# Altium integrated library SPIN_PCB&SCH_library_V01.IntLib: 34 symbols
Pins are listed as number, name and electrical type; pins without a type are passive.

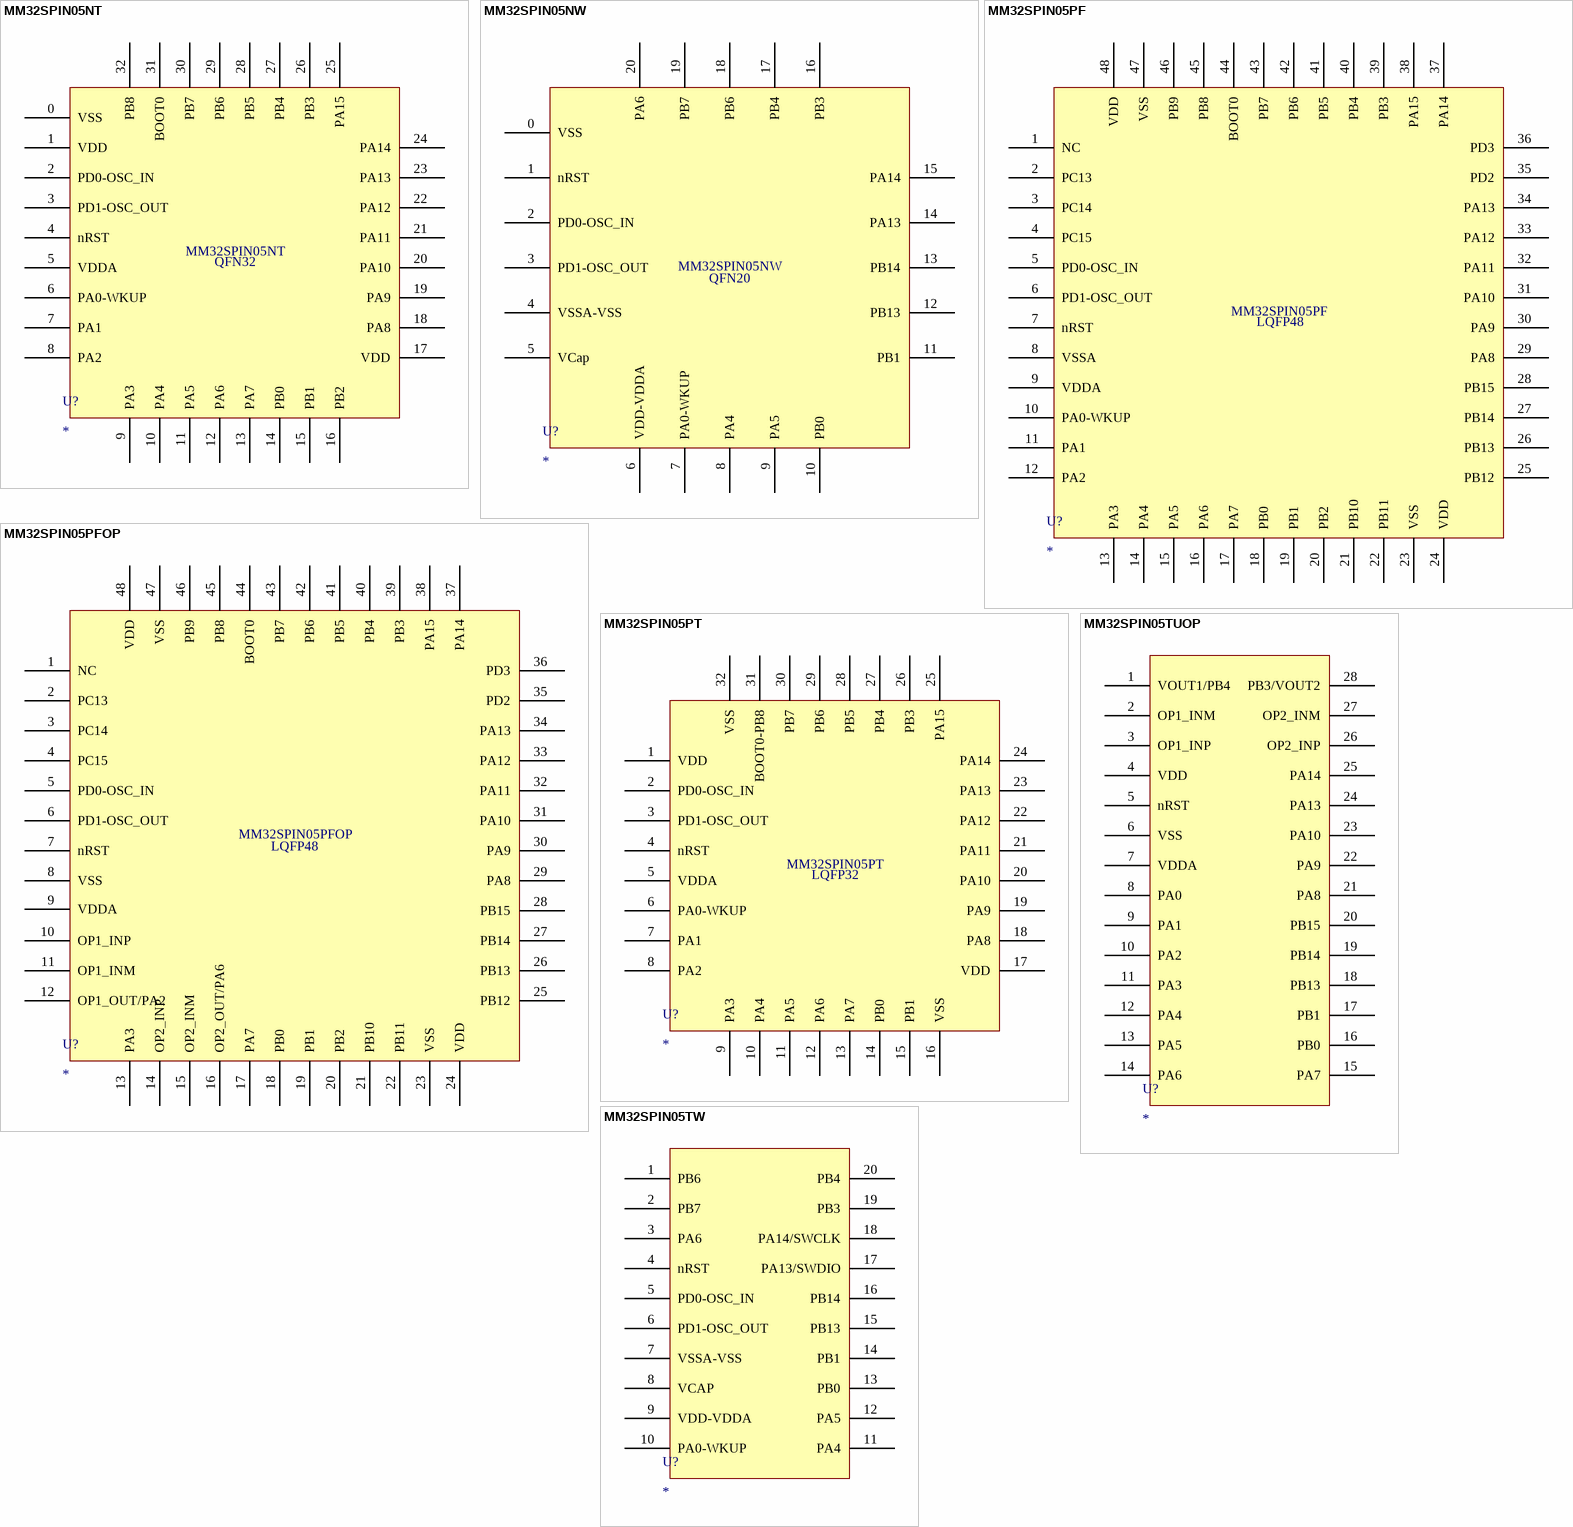
[diagram p0: symbols MM32SPIN05NT to MM32SPIN05TW]

## MM32SPIN05NT
designator U?
footprint QFN32(5*5) (QFN, 32-Leads, Body 5.00x5.00mm, Pitch 0.50mm, Thermal Pad 3.65x3.65mm, IPC Medium Density)
pins: 0 VSS, 1 VDD, 2 PD0-OSC_IN, 3 PD1-OSC_OUT, 4 nRST, 5 VDDA, 6 PA0-WKUP, 7 PA1, 8 PA2, 9 PA3, 10 PA4, 11 PA5, 12 PA6, 13 PA7, 14 PB0, 15 PB1, 16 PB2, 17 VDD, 18 PA8, 19 PA9, 20 PA10, 21 PA11, 22 PA12, 23 PA13, 24 PA14, 25 PA15, 26 PB3, 27 PB4, 28 PB5, 29 PB6, 30 PB7, 31 BOOT0, 32 PB8
text: QFN32

## MM32SPIN05NW
designator U?
footprint QFN20(3*3)
pins: 0 VSS, 1 nRST, 2 PD0-OSC_IN, 3 PD1-OSC_OUT, 4 VSSA-VSS, 5 VCap, 6 VDD-VDDA, 7 PA0-WKUP, 8 PA4, 9 PA5, 10 PB0, 11 PB1, 12 PB13, 13 PB14, 14 PA13, 15 PA14, 16 PB3, 17 PB4, 18 PB6, 19 PB7, 20 PA6
text: QFN20

## MM32SPIN05PF
designator U?
footprint LQFP48
pins: 1 NC, 2 PC13, 3 PC14, 4 PC15, 5 PD0-OSC_IN, 6 PD1-OSC_OUT, 7 nRST, 8 VSSA, 9 VDDA, 10 PA0-WKUP, 11 PA1, 12 PA2, 13 PA3, 14 PA4, 15 PA5, 16 PA6, 17 PA7, 18 PB0, 19 PB1, 20 PB2, 21 PB10, 22 PB11, 23 VSS, 24 VDD, 25 PB12, 26 PB13, 27 PB14, 28 PB15, 29 PA8, 30 PA9, 31 PA10, 32 PA11, 33 PA12, 34 PA13, 35 PD2, 36 PD3, 37 PA14, 38 PA15, 39 PB3, 40 PB4, 41 PB5, 42 PB6, 43 PB7, 44 BOOT0, 45 PB8, 46 PB9, 47 VSS, 48 VDD
text: LQFP48

## MM32SPIN05PFOP
designator U?
footprint LQFP48
pins: 1 NC, 2 PC13, 3 PC14, 4 PC15, 5 PD0-OSC_IN, 6 PD1-OSC_OUT, 7 nRST, 8 VSS, 9 VDDA, 10 OP1_INP, 11 OP1_INM, 12 OP1_OUT/PA2, 13 PA3, 14 OP2_INP, 15 OP2_INM, 16 OP2_OUT/PA6, 17 PA7, 18 PB0, 19 PB1, 20 PB2, 21 PB10, 22 PB11, 23 VSS, 24 VDD, 25 PB12, 26 PB13, 27 PB14, 28 PB15, 29 PA8, 30 PA9, 31 PA10, 32 PA11, 33 PA12, 34 PA13, 35 PD2, 36 PD3, 37 PA14, 38 PA15, 39 PB3, 40 PB4, 41 PB5, 42 PB6, 43 PB7, 44 BOOT0, 45 PB8, 46 PB9, 47 VSS, 48 VDD
text: LQFP48

## MM32SPIN05PT
designator U?
footprint LQFP32
pins: 1 VDD, 2 PD0-OSC_IN, 3 PD1-OSC_OUT, 4 nRST, 5 VDDA, 6 PA0-WKUP, 7 PA1, 8 PA2, 9 PA3, 10 PA4, 11 PA5, 12 PA6, 13 PA7, 14 PB0, 15 PB1, 16 VSS, 17 VDD, 18 PA8, 19 PA9, 20 PA10, 21 PA11, 22 PA12, 23 PA13, 24 PA14, 25 PA15, 26 PB3, 27 PB4, 28 PB5, 29 PB6, 30 PB7, 31 BOOT0-PB8, 32 VSS
text: LQFP32

## MM32SPIN05TUOP
designator U?
footprint TSSOP28 (TSOP, 28-Leads, Body 9.70x4.40mm, Pitch 0.65mm, IPC Medium Density)
pins: 1 VOUT1/PB4, 2 OP1_INM, 3 OP1_INP, 4 VDD, 5 nRST, 6 VSS, 7 VDDA, 8 PA0, 9 PA1, 10 PA2, 11 PA3, 12 PA4, 13 PA5, 14 PA6, 15 PA7, 16 PB0, 17 PB1, 18 PB13, 19 PB14, 20 PB15, 21 PA8, 22 PA9, 23 PA10, 24 PA13, 25 PA14, 26 OP2_INP, 27 OP2_INM, 28 PB3/VOUT2

## MM32SPIN05TW
designator U?
footprint TSSOP20 (TSOP, 20-Leads, Body 6.45x4.38mm, Pitch 0.65mm, IPC Medium Density)
pins: 1 PB6, 2 PB7, 3 PA6, 4 nRST, 5 PD0-OSC_IN, 6 PD1-OSC_OUT, 7 VSSA-VSS, 8 VCAP, 9 VDD-VDDA, 10 PA0-WKUP, 11 PA4, 12 PA5, 13 PB0, 14 PB1, 15 PB13, 16 PB14, 17 PA13/SWDIO, 18 PA14/SWCLK, 19 PB3, 20 PB4

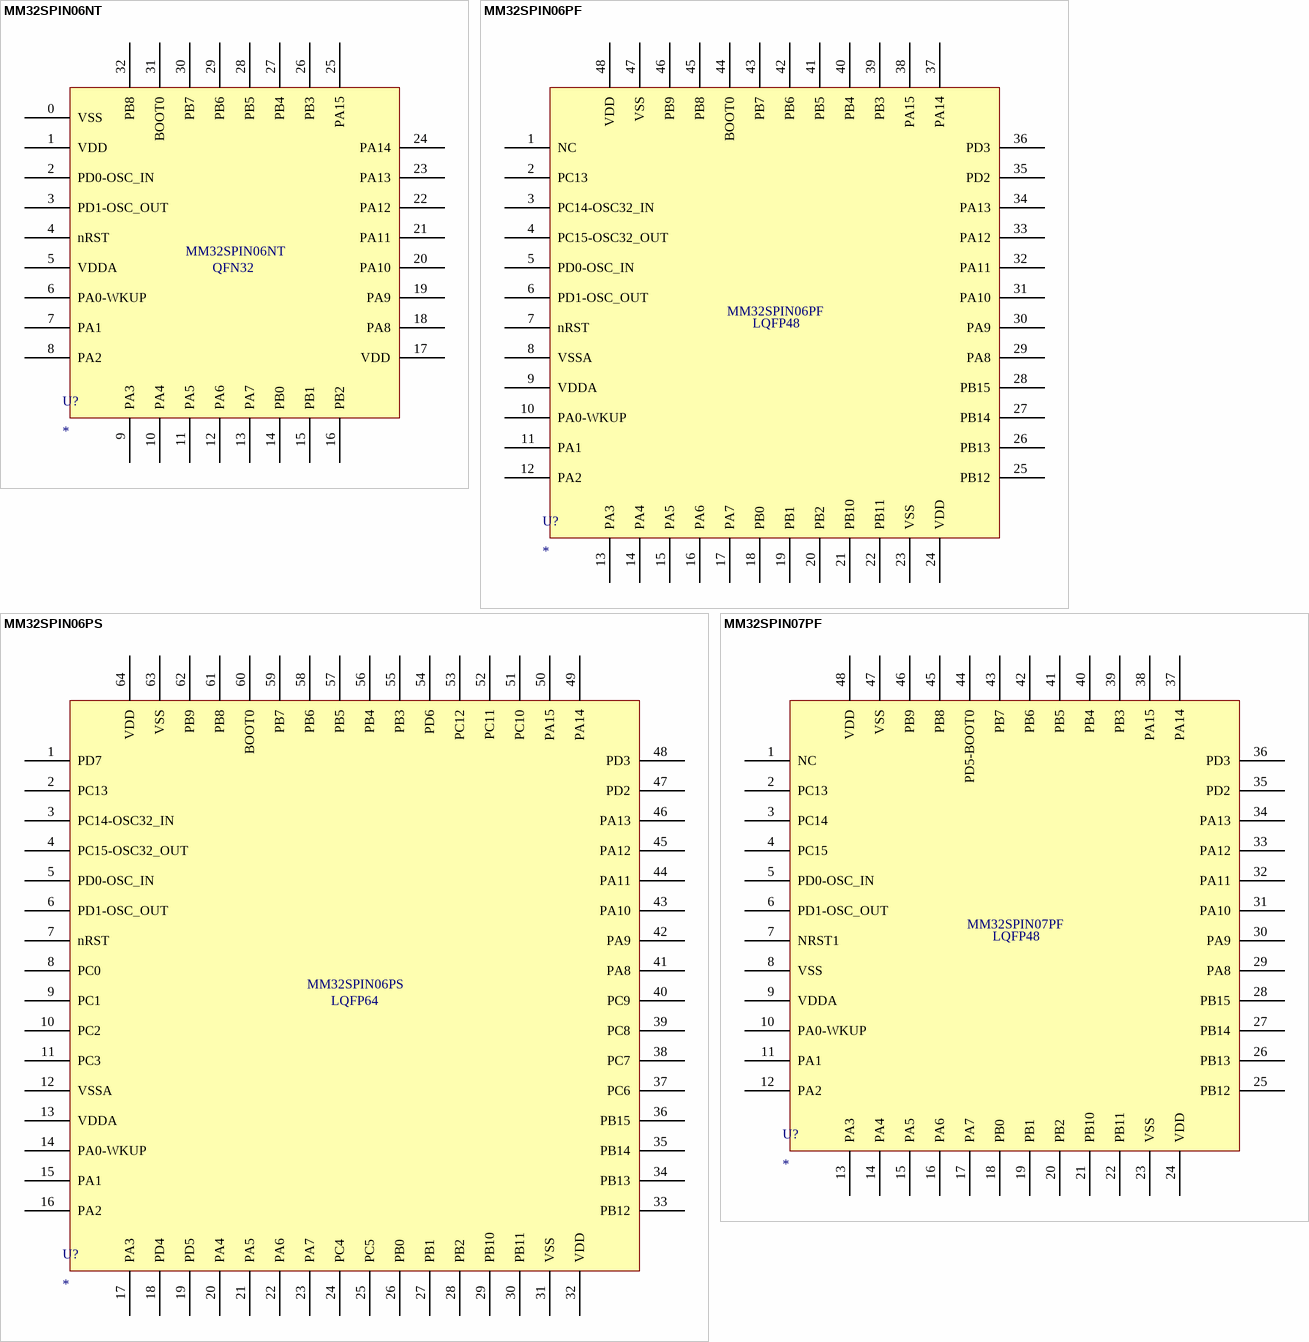
[diagram p1: symbols MM32SPIN06NT to MM32SPIN07PF]

## MM32SPIN06NT
designator U?
footprint QFN32(5*5) (QFN, 32-Leads, Body 5.00x5.00mm, Pitch 0.50mm, Thermal Pad 3.65x3.65mm, IPC Medium Density)
pins: 0 VSS, 1 VDD, 2 PD0-OSC_IN, 3 PD1-OSC_OUT, 4 nRST, 5 VDDA, 6 PA0-WKUP, 7 PA1, 8 PA2, 9 PA3, 10 PA4, 11 PA5, 12 PA6, 13 PA7, 14 PB0, 15 PB1, 16 PB2, 17 VDD, 18 PA8, 19 PA9, 20 PA10, 21 PA11, 22 PA12, 23 PA13, 24 PA14, 25 PA15, 26 PB3, 27 PB4, 28 PB5, 29 PB6, 30 PB7, 31 BOOT0, 32 PB8
text: QFN32

## MM32SPIN06PF
designator U?
footprint LQFP48
pins: 1 NC, 2 PC13, 3 PC14-OSC32_IN, 4 PC15-OSC32_OUT, 5 PD0-OSC_IN, 6 PD1-OSC_OUT, 7 nRST, 8 VSSA, 9 VDDA, 10 PA0-WKUP, 11 PA1, 12 PA2, 13 PA3, 14 PA4, 15 PA5, 16 PA6, 17 PA7, 18 PB0, 19 PB1, 20 PB2, 21 PB10, 22 PB11, 23 VSS, 24 VDD, 25 PB12, 26 PB13, 27 PB14, 28 PB15, 29 PA8, 30 PA9, 31 PA10, 32 PA11, 33 PA12, 34 PA13, 35 PD2, 36 PD3, 37 PA14, 38 PA15, 39 PB3, 40 PB4, 41 PB5, 42 PB6, 43 PB7, 44 BOOT0, 45 PB8, 46 PB9, 47 VSS, 48 VDD
text: LQFP48

## MM32SPIN06PS
designator U?
footprint LQFP64
pins: 1 PD7, 2 PC13, 3 PC14-OSC32_IN, 4 PC15-OSC32_OUT, 5 PD0-OSC_IN, 6 PD1-OSC_OUT, 7 nRST, 8 PC0, 9 PC1, 10 PC2, 11 PC3, 12 VSSA, 13 VDDA, 14 PA0-WKUP, 15 PA1, 16 PA2, 17 PA3, 18 PD4, 19 PD5, 20 PA4, 21 PA5, 22 PA6, 23 PA7, 24 PC4, 25 PC5, 26 PB0, 27 PB1, 28 PB2, 29 PB10, 30 PB11, 31 VSS, 32 VDD, 33 PB12, 34 PB13, 35 PB14, 36 PB15, 37 PC6, 38 PC7, 39 PC8, 40 PC9, 41 PA8, 42 PA9, 43 PA10, 44 PA11, 45 PA12, 46 PA13, 47 PD2, 48 PD3, 49 PA14, 50 PA15, 51 PC10, 52 PC11, 53 PC12, 54 PD6, 55 PB3, 56 PB4, 57 PB5, 58 PB6, 59 PB7, 60 BOOT0, 61 PB8, 62 PB9, 63 VSS, 64 VDD
text: LQFP64

## MM32SPIN07PF
designator U?
footprint LQFP48
pins: 1 NC, 2 PC13, 3 PC14, 4 PC15, 5 PD0-OSC_IN, 6 PD1-OSC_OUT, 7 NRST1, 8 VSS, 9 VDDA, 10 PA0-WKUP, 11 PA1, 12 PA2, 13 PA3, 14 PA4, 15 PA5, 16 PA6, 17 PA7, 18 PB0, 19 PB1, 20 PB2, 21 PB10, 22 PB11, 23 VSS, 24 VDD, 25 PB12, 26 PB13, 27 PB14, 28 PB15, 29 PA8, 30 PA9, 31 PA10, 32 PA11, 33 PA12, 34 PA13, 35 PD2, 36 PD3, 37 PA14, 38 PA15, 39 PB3, 40 PB4, 41 PB5, 42 PB6, 43 PB7, 44 PD5-BOOT0, 45 PB8, 46 PB9, 47 VSS, 48 VDD
text: LQFP48

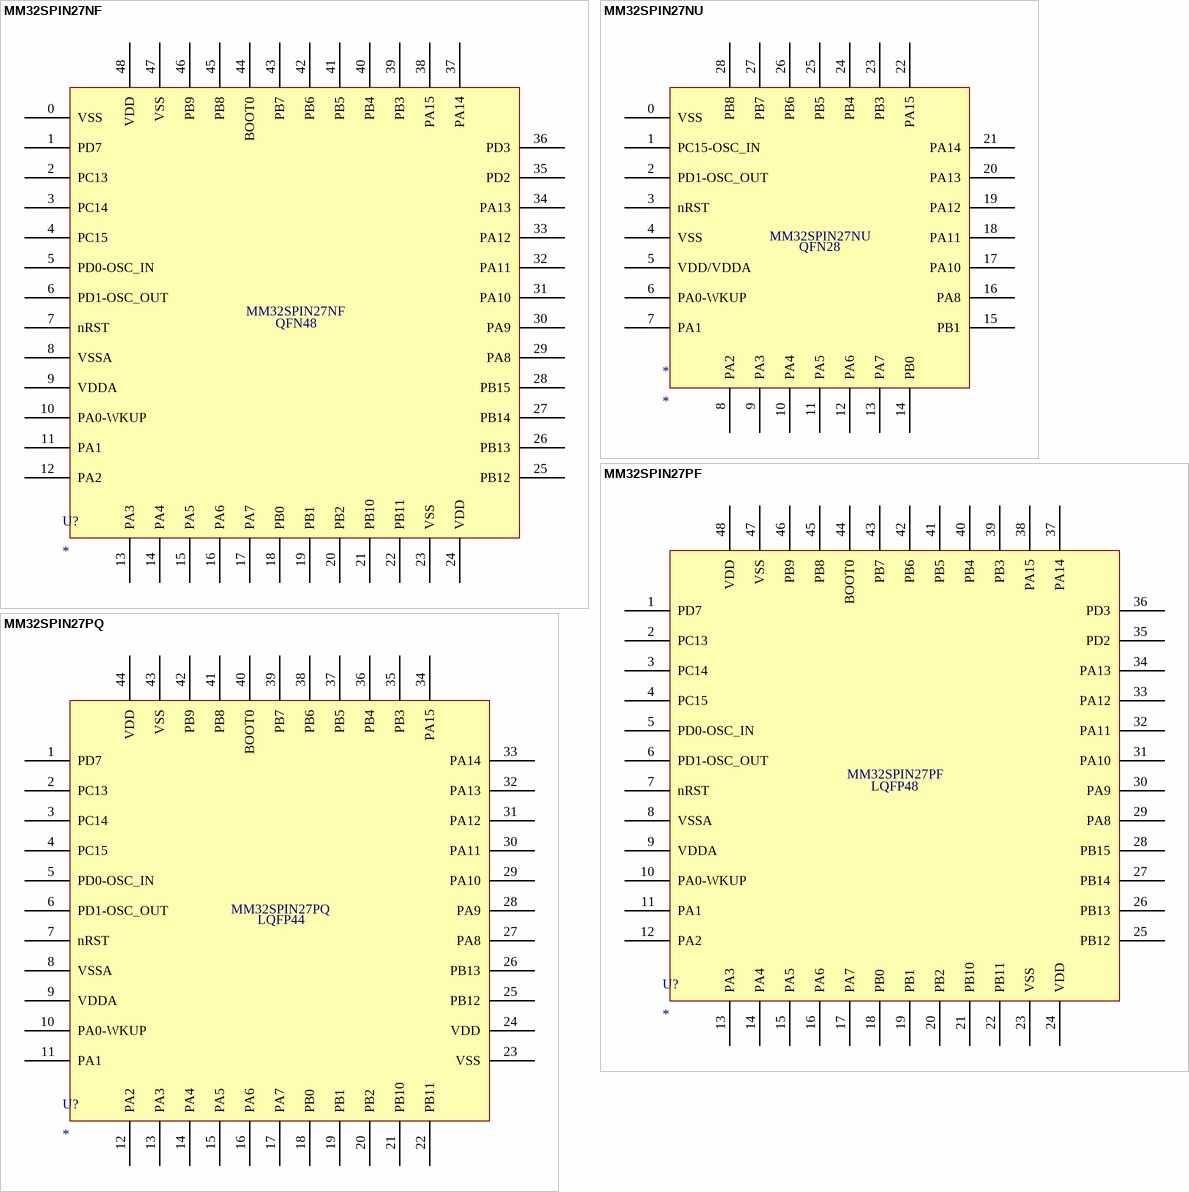
[diagram p2: symbols MM32SPIN27NF to MM32SPIN27PQ]

## MM32SPIN27NF
designator U?
footprint QFN48(7*7) (QFN, 48-Leads, Body 7.00x7.00mm, Pitch 0.50mm, Thermal Pad 5.30x5.30mm, IPC Medium Density)
pins: 0 VSS, 1 PD7, 2 PC13, 3 PC14, 4 PC15, 5 PD0-OSC_IN, 6 PD1-OSC_OUT, 7 nRST, 8 VSSA, 9 VDDA, 10 PA0-WKUP, 11 PA1, 12 PA2, 13 PA3, 14 PA4, 15 PA5, 16 PA6, 17 PA7, 18 PB0, 19 PB1, 20 PB2, 21 PB10, 22 PB11, 23 VSS, 24 VDD, 25 PB12, 26 PB13, 27 PB14, 28 PB15, 29 PA8, 30 PA9, 31 PA10, 32 PA11, 33 PA12, 34 PA13, 35 PD2, 36 PD3, 37 PA14, 38 PA15, 39 PB3, 40 PB4, 41 PB5, 42 PB6, 43 PB7, 44 BOOT0, 45 PB8, 46 PB9, 47 VSS, 48 VDD
text: QFN48

## MM32SPIN27NU
designator *
footprint QFN28(4*4)
pins: 0 VSS, 1 PC15-OSC_IN, 2 PD1-OSC_OUT, 3 nRST, 4 VSS, 5 VDD/VDDA, 6 PA0-WKUP, 7 PA1, 8 PA2, 9 PA3, 10 PA4, 11 PA5, 12 PA6, 13 PA7, 14 PB0, 15 PB1, 16 PA8, 17 PA10, 18 PA11, 19 PA12, 20 PA13, 21 PA14, 22 PA15, 23 PB3, 24 PB4, 25 PB5, 26 PB6, 27 PB7, 28 PB8
text: QFN28

## MM32SPIN27PF
designator U?
footprint LQFP48
pins: 1 PD7, 2 PC13, 3 PC14, 4 PC15, 5 PD0-OSC_IN, 6 PD1-OSC_OUT, 7 nRST, 8 VSSA, 9 VDDA, 10 PA0-WKUP, 11 PA1, 12 PA2, 13 PA3, 14 PA4, 15 PA5, 16 PA6, 17 PA7, 18 PB0, 19 PB1, 20 PB2, 21 PB10, 22 PB11, 23 VSS, 24 VDD, 25 PB12, 26 PB13, 27 PB14, 28 PB15, 29 PA8, 30 PA9, 31 PA10, 32 PA11, 33 PA12, 34 PA13, 35 PD2, 36 PD3, 37 PA14, 38 PA15, 39 PB3, 40 PB4, 41 PB5, 42 PB6, 43 PB7, 44 BOOT0, 45 PB8, 46 PB9, 47 VSS, 48 VDD
text: LQFP48

## MM32SPIN27PQ
designator U?
footprint LQFP44 (TQFP, 44-Leads, Body 10.00x10.00mm, Pitch 0.80mm, IPC Medium Density)
pins: 1 PD7, 2 PC13, 3 PC14, 4 PC15, 5 PD0-OSC_IN, 6 PD1-OSC_OUT, 7 nRST, 8 VSSA, 9 VDDA, 10 PA0-WKUP, 11 PA1, 12 PA2, 13 PA3, 14 PA4, 15 PA5, 16 PA6, 17 PA7, 18 PB0, 19 PB1, 20 PB2, 21 PB10, 22 PB11, 23 VSS, 24 VDD, 25 PB12, 26 PB13, 27 PA8, 28 PA9, 29 PA10, 30 PA11, 31 PA12, 32 PA13, 33 PA14, 34 PA15, 35 PB3, 36 PB4, 37 PB5, 38 PB6, 39 PB7, 40 BOOT0, 41 PB8, 42 PB9, 43 VSS, 44 VDD
text: LQFP44

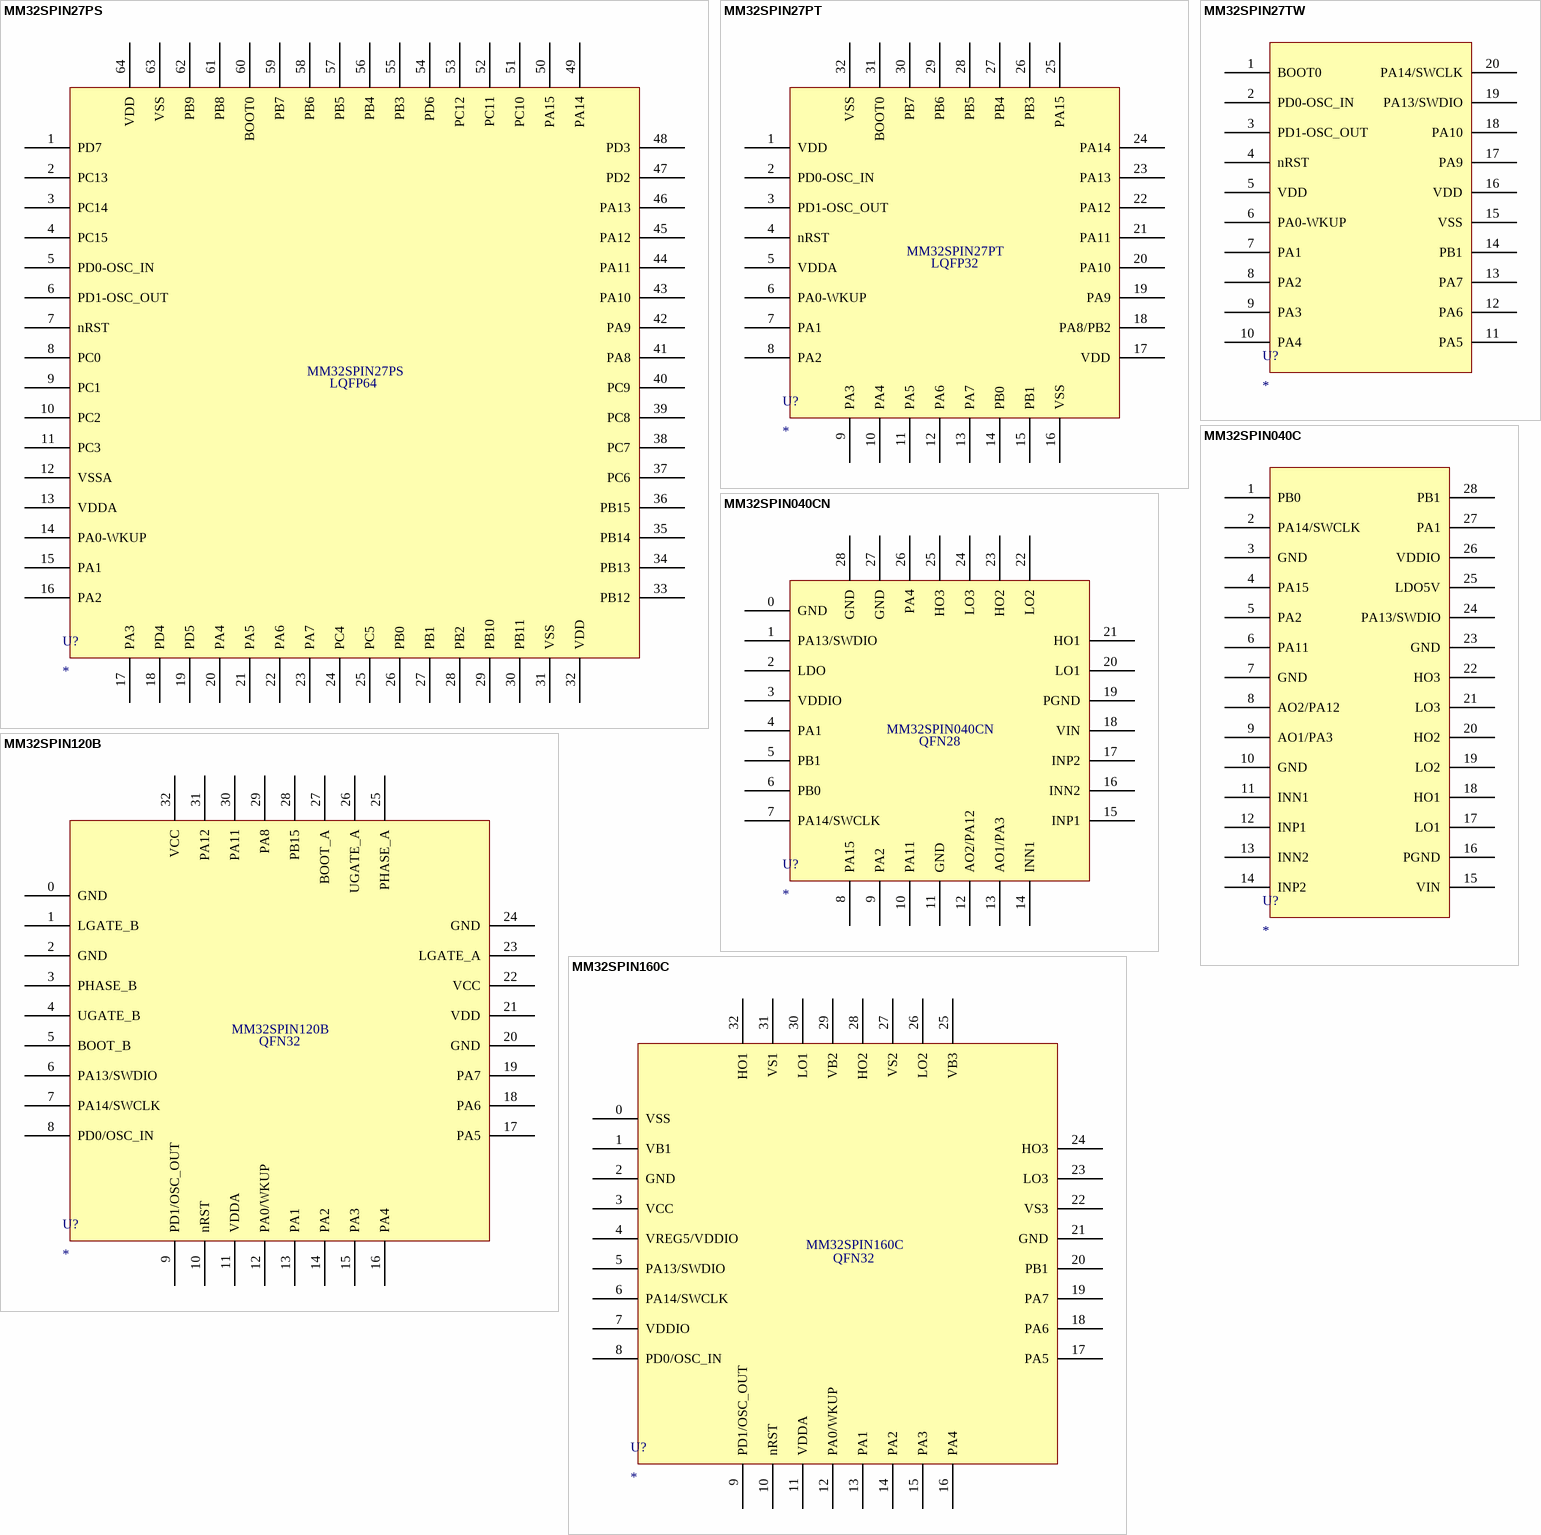
[diagram p3: symbols MM32SPIN27PS to MM32SPIN160C]

## MM32SPIN27PS
designator U?
footprint LQFP64
pins: 1 PD7, 2 PC13, 3 PC14, 4 PC15, 5 PD0-OSC_IN, 6 PD1-OSC_OUT, 7 nRST, 8 PC0, 9 PC1, 10 PC2, 11 PC3, 12 VSSA, 13 VDDA, 14 PA0-WKUP, 15 PA1, 16 PA2, 17 PA3, 18 PD4, 19 PD5, 20 PA4, 21 PA5, 22 PA6, 23 PA7, 24 PC4, 25 PC5, 26 PB0, 27 PB1, 28 PB2, 29 PB10, 30 PB11, 31 VSS, 32 VDD, 33 PB12, 34 PB13, 35 PB14, 36 PB15, 37 PC6, 38 PC7, 39 PC8, 40 PC9, 41 PA8, 42 PA9, 43 PA10, 44 PA11, 45 PA12, 46 PA13, 47 PD2, 48 PD3, 49 PA14, 50 PA15, 51 PC10, 52 PC11, 53 PC12, 54 PD6, 55 PB3, 56 PB4, 57 PB5, 58 PB6, 59 PB7, 60 BOOT0, 61 PB8, 62 PB9, 63 VSS, 64 VDD
text: LQFP64

## MM32SPIN27PT
designator U?
footprint LQFP32
pins: 1 VDD, 2 PD0-OSC_IN, 3 PD1-OSC_OUT, 4 nRST, 5 VDDA, 6 PA0-WKUP, 7 PA1, 8 PA2, 9 PA3, 10 PA4, 11 PA5, 12 PA6, 13 PA7, 14 PB0, 15 PB1, 16 VSS, 17 VDD, 18 PA8/PB2, 19 PA9, 20 PA10, 21 PA11, 22 PA12, 23 PA13, 24 PA14, 25 PA15, 26 PB3, 27 PB4, 28 PB5, 29 PB6, 30 PB7, 31 BOOT0, 32 VSS
text: LQFP32

## MM32SPIN27TW
designator U?
footprint TSSOP20 (TSOP, 20-Leads, Body 6.45x4.38mm, Pitch 0.65mm, IPC Medium Density)
pins: 1 BOOT0, 2 PD0-OSC_IN, 3 PD1-OSC_OUT, 4 nRST, 5 VDD, 6 PA0-WKUP, 7 PA1, 8 PA2, 9 PA3, 10 PA4, 11 PA5, 12 PA6, 13 PA7, 14 PB1, 15 VSS, 16 VDD, 17 PA9, 18 PA10, 19 PA13/SWDIO, 20 PA14/SWCLK

## MM32SPIN040C
designator U?
footprint TSSOP28 (TSOP, 28-Leads, Body 9.70x4.40mm, Pitch 0.65mm, IPC Medium Density)
pins: 1 PB0, 2 PA14/SWCLK, 3 GND, 4 PA15, 5 PA2, 6 PA11, 7 GND, 8 AO2/PA12, 9 AO1/PA3, 10 GND, 11 INN1, 12 INP1, 13 INN2, 14 INP2, 15 VIN, 16 PGND, 17 LO1, 18 HO1, 19 LO2, 20 HO2, 21 LO3, 22 HO3, 23 GND, 24 PA13/SWDIO, 25 LDO5V, 26 VDDIO, 27 PA1, 28 PB1

## MM32SPIN040CN
designator U?
footprint QFN28(4*4)
pins: 0 GND, 1 PA13/SWDIO, 2 LDO, 3 VDDIO, 4 PA1, 5 PB1, 6 PB0, 7 PA14/SWCLK, 8 PA15, 9 PA2, 10 PA11, 11 GND, 12 AO2/PA12, 13 AO1/PA3, 14 INN1, 15 INP1, 16 INN2, 17 INP2, 18 VIN, 19 PGND, 20 LO1, 21 HO1, 22 LO2, 23 HO2, 24 LO3, 25 HO3, 26 PA4, 27 GND, 28 GND
text: QFN28

## MM32SPIN120B
designator U?
footprint QFN32(5*5) (QFN, 32-Leads, Body 5.00x5.00mm, Pitch 0.50mm, Thermal Pad 3.65x3.65mm, IPC Medium Density)
pins: 0 GND, 1 LGATE_B, 2 GND, 3 PHASE_B, 4 UGATE_B, 5 BOOT_B, 6 PA13/SWDIO, 7 PA14/SWCLK, 8 PD0/OSC_IN, 9 PD1/OSC_OUT, 10 nRST, 11 VDDA, 12 PA0/WKUP, 13 PA1, 14 PA2, 15 PA3, 16 PA4, 17 PA5, 18 PA6, 19 PA7, 20 GND, 21 VDD, 22 VCC, 23 LGATE_A, 24 GND, 25 PHASE_A, 26 UGATE_A, 27 BOOT_A, 28 PB15, 29 PA8, 30 PA11, 31 PA12, 32 VCC
text: QFN32

## MM32SPIN160C
designator U?
footprint QFN32(5*5) (QFN, 32-Leads, Body 5.00x5.00mm, Pitch 0.50mm, Thermal Pad 3.65x3.65mm, IPC Medium Density)
pins: 0 VSS, 1 VB1, 2 GND, 3 VCC, 4 VREG5/VDDIO, 5 PA13/SWDIO, 6 PA14/SWCLK, 7 VDDIO, 8 PD0/OSC_IN, 9 PD1/OSC_OUT, 10 nRST, 11 VDDA, 12 PA0/WKUP, 13 PA1, 14 PA2, 15 PA3, 16 PA4, 17 PA5, 18 PA6, 19 PA7, 20 PB1, 21 GND, 22 VS3, 23 LO3, 24 HO3, 25 VB3, 26 LO2, 27 VS2, 28 HO2, 29 VB2, 30 LO1, 31 VS1, 32 HO1
text: QFN32

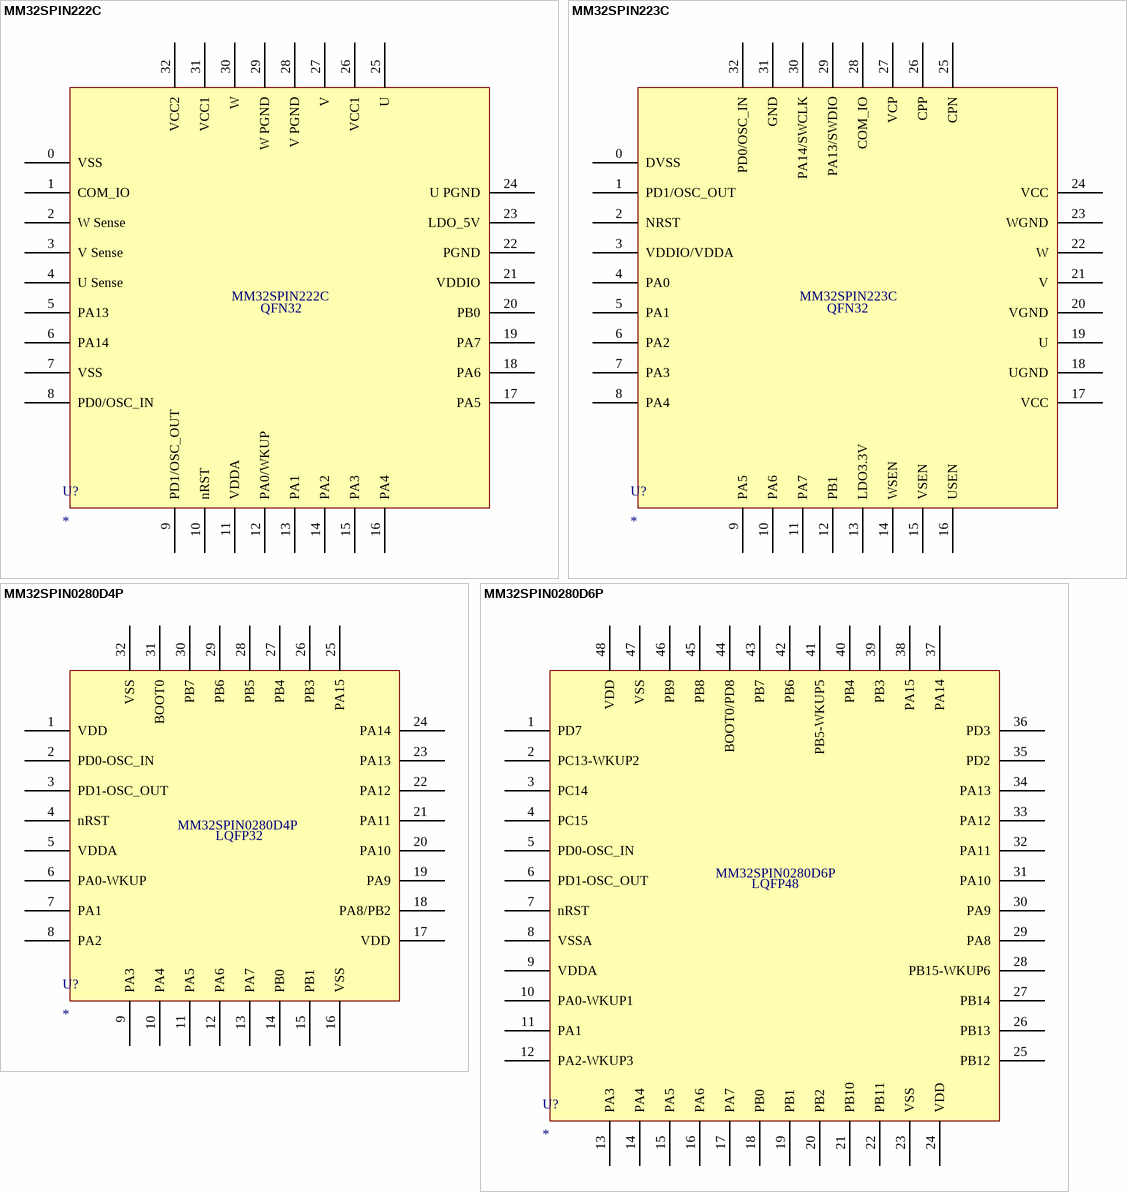
[diagram p4: symbols MM32SPIN222C to MM32SPIN0280D6P]

## MM32SPIN222C
designator U?
footprint QFN32(5*5) (QFN, 32-Leads, Body 5.00x5.00mm, Pitch 0.50mm, Thermal Pad 3.65x3.65mm, IPC Medium Density)
pins: 0 VSS, 1 COM_IO, 2 W Sense, 3 V Sense, 4 U Sense, 5 PA13, 6 PA14, 7 VSS, 8 PD0/OSC_IN, 9 PD1/OSC_OUT, 10 nRST, 11 VDDA, 12 PA0/WKUP, 13 PA1, 14 PA2, 15 PA3, 16 PA4, 17 PA5, 18 PA6, 19 PA7, 20 PB0, 21 VDDIO, 22 PGND, 23 LDO_5V, 24 U PGND, 25 U, 26 VCC1, 27 V, 28 V PGND, 29 W PGND, 30 W, 31 VCC1, 32 VCC2
text: QFN32

## MM32SPIN223C
designator U?
footprint QFN32(5*5) (QFN, 32-Leads, Body 5.00x5.00mm, Pitch 0.50mm, Thermal Pad 3.65x3.65mm, IPC Medium Density)
pins: 0 DVSS, 1 PD1/OSC_OUT, 2 NRST, 3 VDDIO/VDDA, 4 PA0, 5 PA1, 6 PA2, 7 PA3, 8 PA4, 9 PA5, 10 PA6, 11 PA7, 12 PB1, 13 LDO3.3V, 14 WSEN, 15 VSEN, 16 USEN, 17 VCC, 18 UGND, 19 U, 20 VGND, 21 V, 22 W, 23 WGND, 24 VCC, 25 CPN, 26 CPP, 27 VCP, 28 COM_IO, 29 PA13/SWDIO, 30 PA14/SWCLK, 31 GND, 32 PD0/OSC_IN
text: QFN32

## MM32SPIN0280D4P
designator U?
footprint LQFP32
pins: 1 VDD, 2 PD0-OSC_IN, 3 PD1-OSC_OUT, 4 nRST, 5 VDDA, 6 PA0-WKUP, 7 PA1, 8 PA2, 9 PA3, 10 PA4, 11 PA5, 12 PA6, 13 PA7, 14 PB0, 15 PB1, 16 VSS, 17 VDD, 18 PA8/PB2, 19 PA9, 20 PA10, 21 PA11, 22 PA12, 23 PA13, 24 PA14, 25 PA15, 26 PB3, 27 PB4, 28 PB5, 29 PB6, 30 PB7, 31 BOOT0, 32 VSS
text: LQFP32

## MM32SPIN0280D6P
designator U?
footprint LQFP48
pins: 1 PD7, 2 PC13-WKUP2, 3 PC14, 4 PC15, 5 PD0-OSC_IN, 6 PD1-OSC_OUT, 7 nRST, 8 VSSA, 9 VDDA, 10 PA0-WKUP1, 11 PA1, 12 PA2-WKUP3, 13 PA3, 14 PA4, 15 PA5, 16 PA6, 17 PA7, 18 PB0, 19 PB1, 20 PB2, 21 PB10, 22 PB11, 23 VSS, 24 VDD, 25 PB12, 26 PB13, 27 PB14, 28 PB15-WKUP6, 29 PA8, 30 PA9, 31 PA10, 32 PA11, 33 PA12, 34 PA13, 35 PD2, 36 PD3, 37 PA14, 38 PA15, 39 PB3, 40 PB4, 41 PB5-WKUP5, 42 PB6, 43 PB7, 44 BOOT0/PD8, 45 PB8, 46 PB9, 47 VSS, 48 VDD
text: LQFP48

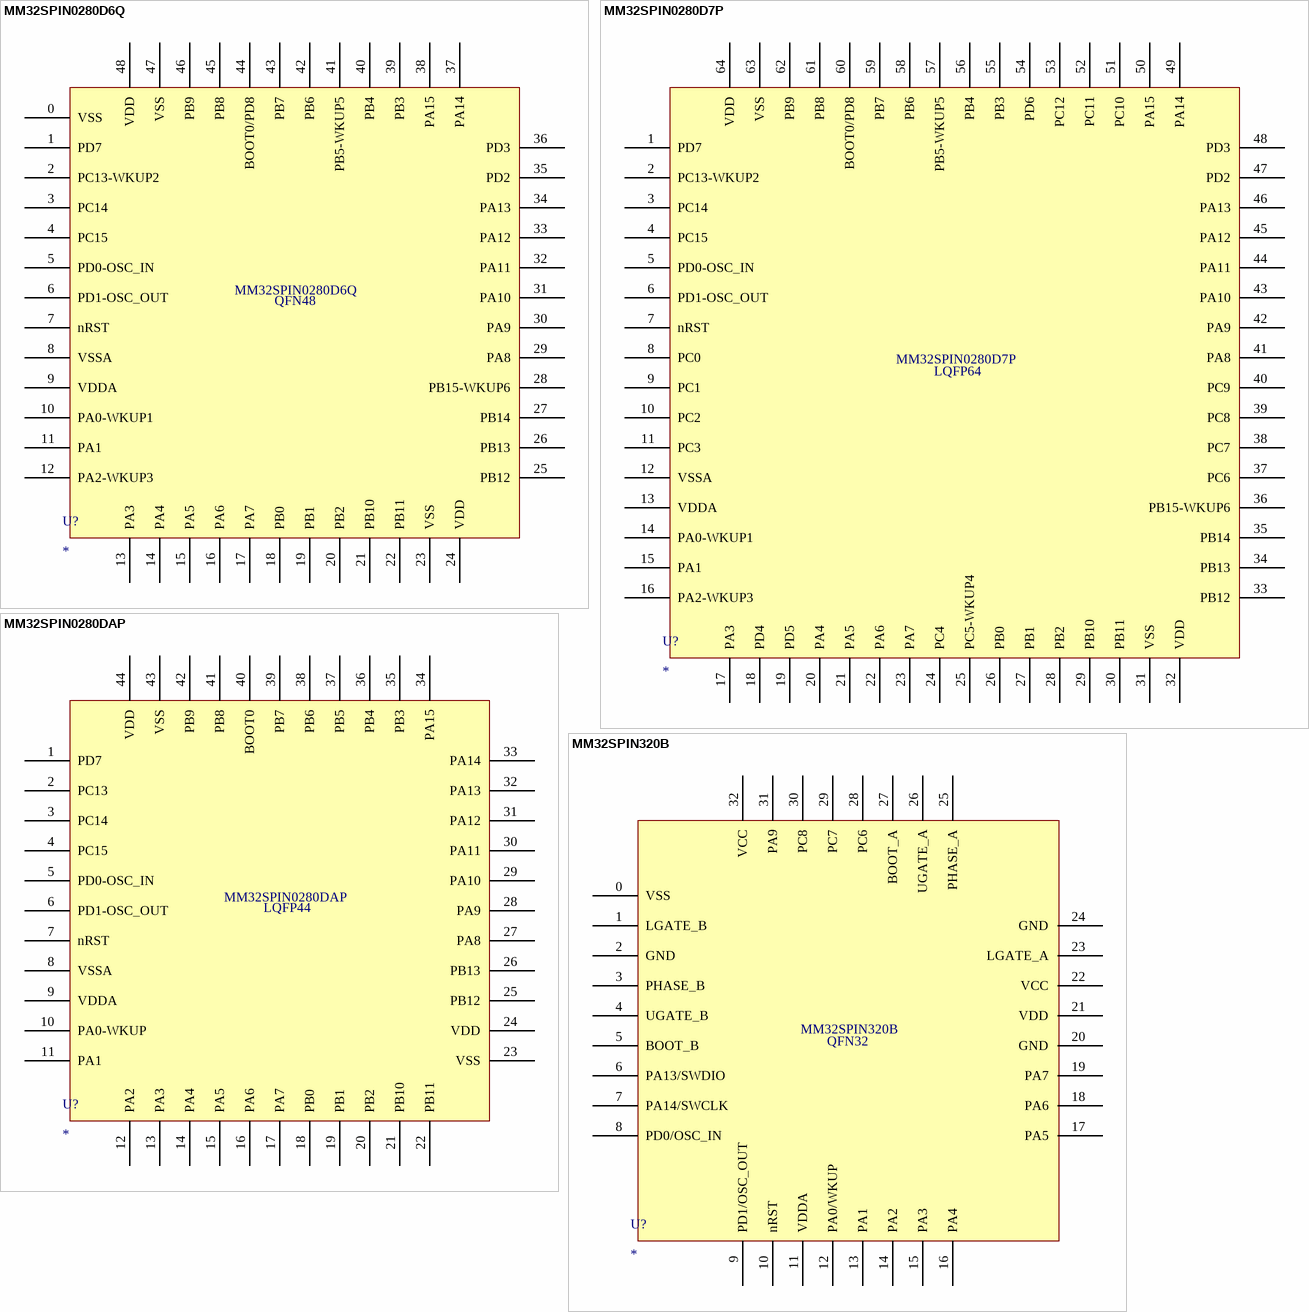
[diagram p5: symbols MM32SPIN0280D6Q to MM32SPIN320B]

## MM32SPIN0280D6Q
designator U?
footprint QFN48(7*7) (QFN, 48-Leads, Body 7.00x7.00mm, Pitch 0.50mm, Thermal Pad 5.30x5.30mm, IPC Medium Density)
pins: 0 VSS, 1 PD7, 2 PC13-WKUP2, 3 PC14, 4 PC15, 5 PD0-OSC_IN, 6 PD1-OSC_OUT, 7 nRST, 8 VSSA, 9 VDDA, 10 PA0-WKUP1, 11 PA1, 12 PA2-WKUP3, 13 PA3, 14 PA4, 15 PA5, 16 PA6, 17 PA7, 18 PB0, 19 PB1, 20 PB2, 21 PB10, 22 PB11, 23 VSS, 24 VDD, 25 PB12, 26 PB13, 27 PB14, 28 PB15-WKUP6, 29 PA8, 30 PA9, 31 PA10, 32 PA11, 33 PA12, 34 PA13, 35 PD2, 36 PD3, 37 PA14, 38 PA15, 39 PB3, 40 PB4, 41 PB5-WKUP5, 42 PB6, 43 PB7, 44 BOOT0/PD8, 45 PB8, 46 PB9, 47 VSS, 48 VDD
text: QFN48

## MM32SPIN0280D7P
designator U?
footprint LQFP64
pins: 1 PD7, 2 PC13-WKUP2, 3 PC14, 4 PC15, 5 PD0-OSC_IN, 6 PD1-OSC_OUT, 7 nRST, 8 PC0, 9 PC1, 10 PC2, 11 PC3, 12 VSSA, 13 VDDA, 14 PA0-WKUP1, 15 PA1, 16 PA2-WKUP3, 17 PA3, 18 PD4, 19 PD5, 20 PA4, 21 PA5, 22 PA6, 23 PA7, 24 PC4, 25 PC5-WKUP4, 26 PB0, 27 PB1, 28 PB2, 29 PB10, 30 PB11, 31 VSS, 32 VDD, 33 PB12, 34 PB13, 35 PB14, 36 PB15-WKUP6, 37 PC6, 38 PC7, 39 PC8, 40 PC9, 41 PA8, 42 PA9, 43 PA10, 44 PA11, 45 PA12, 46 PA13, 47 PD2, 48 PD3, 49 PA14, 50 PA15, 51 PC10, 52 PC11, 53 PC12, 54 PD6, 55 PB3, 56 PB4, 57 PB5-WKUP5, 58 PB6, 59 PB7, 60 BOOT0/PD8, 61 PB8, 62 PB9, 63 VSS, 64 VDD
text: LQFP64

## MM32SPIN0280DAP
designator U?
footprint LQFP44 (TQFP, 44-Leads, Body 10.00x10.00mm, Pitch 0.80mm, IPC Medium Density)
pins: 1 PD7, 2 PC13, 3 PC14, 4 PC15, 5 PD0-OSC_IN, 6 PD1-OSC_OUT, 7 nRST, 8 VSSA, 9 VDDA, 10 PA0-WKUP, 11 PA1, 12 PA2, 13 PA3, 14 PA4, 15 PA5, 16 PA6, 17 PA7, 18 PB0, 19 PB1, 20 PB2, 21 PB10, 22 PB11, 23 VSS, 24 VDD, 25 PB12, 26 PB13, 27 PA8, 28 PA9, 29 PA10, 30 PA11, 31 PA12, 32 PA13, 33 PA14, 34 PA15, 35 PB3, 36 PB4, 37 PB5, 38 PB6, 39 PB7, 40 BOOT0, 41 PB8, 42 PB9, 43 VSS, 44 VDD
text: LQFP44

## MM32SPIN320B
designator U?
footprint QFN32(5*5) (QFN, 32-Leads, Body 5.00x5.00mm, Pitch 0.50mm, Thermal Pad 3.65x3.65mm, IPC Medium Density)
pins: 0 VSS, 1 LGATE_B, 2 GND, 3 PHASE_B, 4 UGATE_B, 5 BOOT_B, 6 PA13/SWDIO, 7 PA14/SWCLK, 8 PD0/OSC_IN, 9 PD1/OSC_OUT, 10 nRST, 11 VDDA, 12 PA0/WKUP, 13 PA1, 14 PA2, 15 PA3, 16 PA4, 17 PA5, 18 PA6, 19 PA7, 20 GND, 21 VDD, 22 VCC, 23 LGATE_A, 24 GND, 25 PHASE_A, 26 UGATE_A, 27 BOOT_A, 28 PC6, 29 PC7, 30 PC8, 31 PA9, 32 VCC
text: QFN32

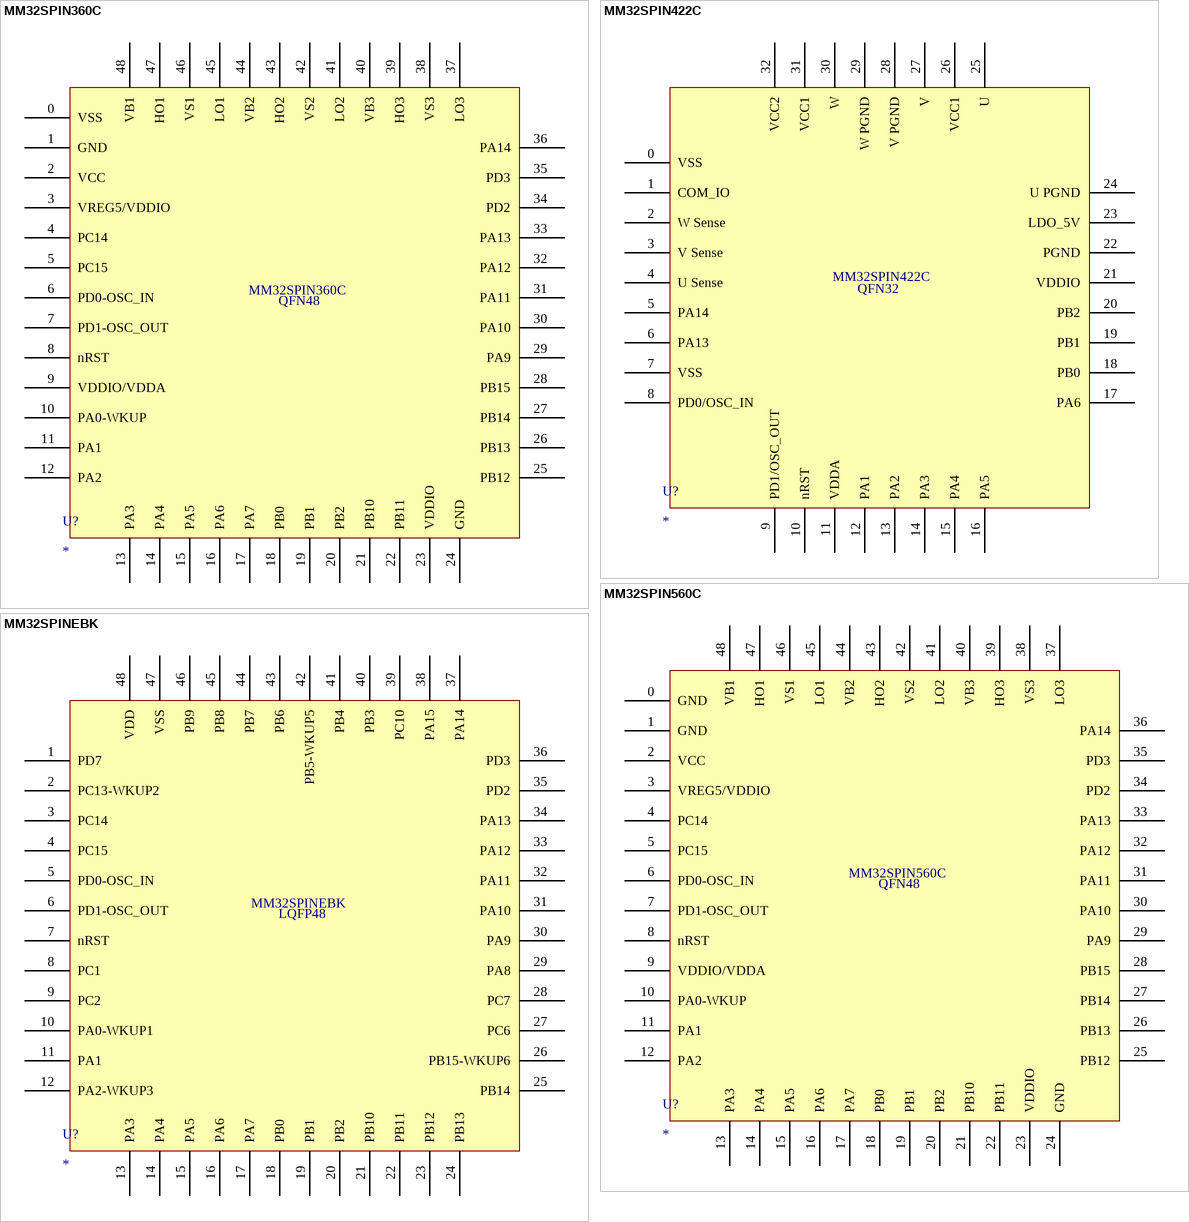
[diagram p6: symbols MM32SPIN360C to MM32SPINEBK]

## MM32SPIN360C
designator U?
footprint QFN48(6*6) (QFN, 48-Leads, Body 6.00x6.00mm, Pitch 0.40mm, Thermal Pad 2.70x4.15mm, IPC Medium Density)
pins: 0 VSS, 1 GND, 2 VCC, 3 VREG5/VDDIO, 4 PC14, 5 PC15, 6 PD0-OSC_IN, 7 PD1-OSC_OUT, 8 nRST, 9 VDDIO/VDDA, 10 PA0-WKUP, 11 PA1, 12 PA2, 13 PA3, 14 PA4, 15 PA5, 16 PA6, 17 PA7, 18 PB0, 19 PB1, 20 PB2, 21 PB10, 22 PB11, 23 VDDIO, 24 GND, 25 PB12, 26 PB13, 27 PB14, 28 PB15, 29 PA9, 30 PA10, 31 PA11, 32 PA12, 33 PA13, 34 PD2, 35 PD3, 36 PA14, 37 LO3, 38 VS3, 39 HO3, 40 VB3, 41 LO2, 42 VS2, 43 HO2, 44 VB2, 45 LO1, 46 VS1, 47 HO1, 48 VB1
text: QFN48

## MM32SPIN422C
designator U?
footprint QFN32(5*5) (QFN, 32-Leads, Body 5.00x5.00mm, Pitch 0.50mm, Thermal Pad 3.65x3.65mm, IPC Medium Density)
pins: 0 VSS, 1 COM_IO, 2 W Sense, 3 V Sense, 4 U Sense, 5 PA14, 6 PA13, 7 VSS, 8 PD0/OSC_IN, 9 PD1/OSC_OUT, 10 nRST, 11 VDDA, 12 PA1, 13 PA2, 14 PA3, 15 PA4, 16 PA5, 17 PA6, 18 PB0, 19 PB1, 20 PB2, 21 VDDIO, 22 PGND, 23 LDO_5V, 24 U PGND, 25 U, 26 VCC1, 27 V, 28 V PGND, 29 W PGND, 30 W, 31 VCC1, 32 VCC2
text: QFN32

## MM32SPIN560C
designator U?
footprint QFN48(6*6) (QFN, 48-Leads, Body 6.00x6.00mm, Pitch 0.40mm, Thermal Pad 2.70x4.15mm, IPC Medium Density)
pins: 0 GND, 1 GND, 2 VCC, 3 VREG5/VDDIO, 4 PC14, 5 PC15, 6 PD0-OSC_IN, 7 PD1-OSC_OUT, 8 nRST, 9 VDDIO/VDDA, 10 PA0-WKUP, 11 PA1, 12 PA2, 13 PA3, 14 PA4, 15 PA5, 16 PA6, 17 PA7, 18 PB0, 19 PB1, 20 PB2, 21 PB10, 22 PB11, 23 VDDIO, 24 GND, 25 PB12, 26 PB13, 27 PB14, 28 PB15, 29 PA9, 30 PA10, 31 PA11, 32 PA12, 33 PA13, 34 PD2, 35 PD3, 36 PA14, 37 LO3, 38 VS3, 39 HO3, 40 VB3, 41 LO2, 42 VS2, 43 HO2, 44 VB2, 45 LO1, 46 VS1, 47 HO1, 48 VB1
text: QFN48

## MM32SPINEBK
designator U?
footprint LQFP48
pins: 1 PD7, 2 PC13-WKUP2, 3 PC14, 4 PC15, 5 PD0-OSC_IN, 6 PD1-OSC_OUT, 7 nRST, 8 PC1, 9 PC2, 10 PA0-WKUP1, 11 PA1, 12 PA2-WKUP3, 13 PA3, 14 PA4, 15 PA5, 16 PA6, 17 PA7, 18 PB0, 19 PB1, 20 PB2, 21 PB10, 22 PB11, 23 PB12, 24 PB13, 25 PB14, 26 PB15-WKUP6, 27 PC6, 28 PC7, 29 PA8, 30 PA9, 31 PA10, 32 PA11, 33 PA12, 34 PA13, 35 PD2, 36 PD3, 37 PA14, 38 PA15, 39 PC10, 40 PB3, 41 PB4, 42 PB5-WKUP5, 43 PB6, 44 PB7, 45 PB8, 46 PB9, 47 VSS, 48 VDD
text: LQFP48